# EAGLE library part SIR178DP (library Brad_Library)
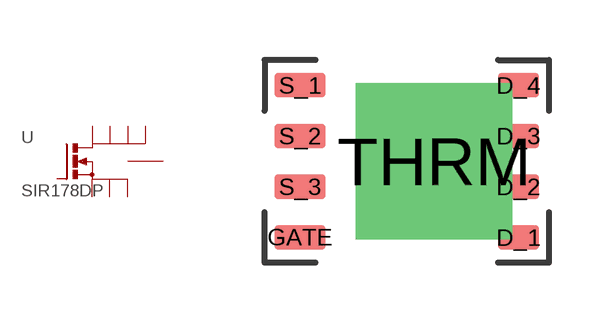
[diagram p4: symbol with the pads of POWERPAK_SO-8_SINGLE; footprint POWERPAK_SO-8_SINGLE]

Designator prefix -

## SIR178DP  [POWERPAK_SO-8_SINGLE]
D_1  D  pas
D_2  D1  pas
D_3  D2  pas
D_4  D3  pas
GATE  G  pas
S_1  S  pas
S_2  S1  pas
S_3  S2  pas
THRM  THERMAL  pas

## Footprint POWERPAK_SO-8_SINGLE (pad centres in mm)
smd 1.016 x 0.61: D_1 6.096,-1.905; D_2 6.096,-0.635; D_3 6.096,0.635; D_4 6.096,1.905
smd 1.27 x 0.61: GATE 0.635,-1.905; S_1 0.635,1.905; S_2 0.635,0.635; S_3 0.635,-0.635
drill 0.203 pad 3.912 square: THRM 3.988,0